# Altium footprint library CRY_CM415.PcbLib: 1 footprints
Each footprint in its own frame and in the unit in brackets; x right, y up, seen from the top. Pads: shape width x height; smd on the part's side, far side on the other; paste and mask are expansions set on the pad; w line width, h text height; cw(c..) or ccw(c..) is an arc to the next point about the centre after c.
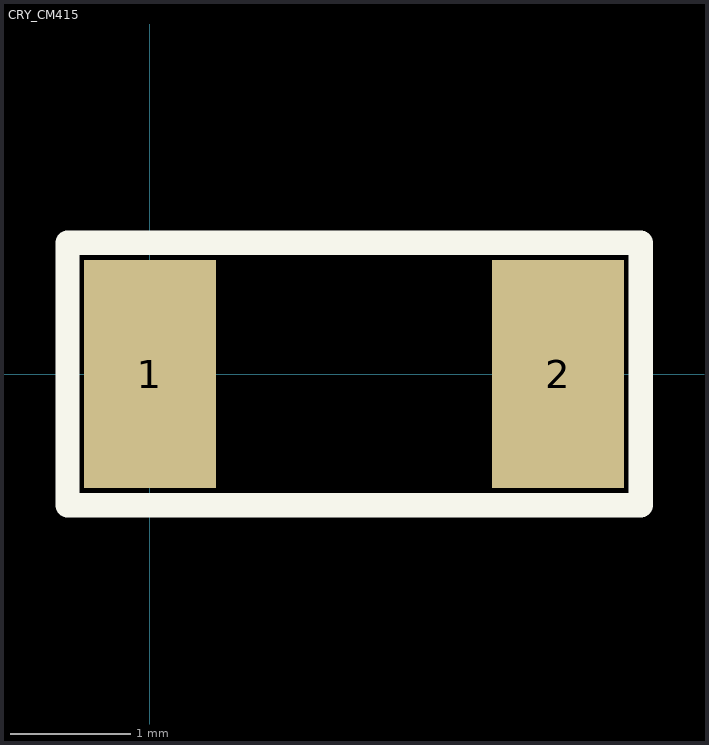
[diagram p0: the footprint, top view; thin cyan lines are the x and y axes]

## CRY_CM415 [mm]
pads (2):
  rect 1.1x1.9 smd: 1(0,0) 2(3.4,0)
TopOverlay:
  lines w0.203: -0.686,-1.092 -0.686,1.092 4.089,1.092 4.089,-1.092 -0.686,-1.092
3D body: height 0.9, standoff 0, extent -0.652,-1.052 4.052,1.052